# Altium schematic symbol library 原理图.SchLib: 5 symbols
Pins are listed as number, name and electrical type; pins without a type are passive.

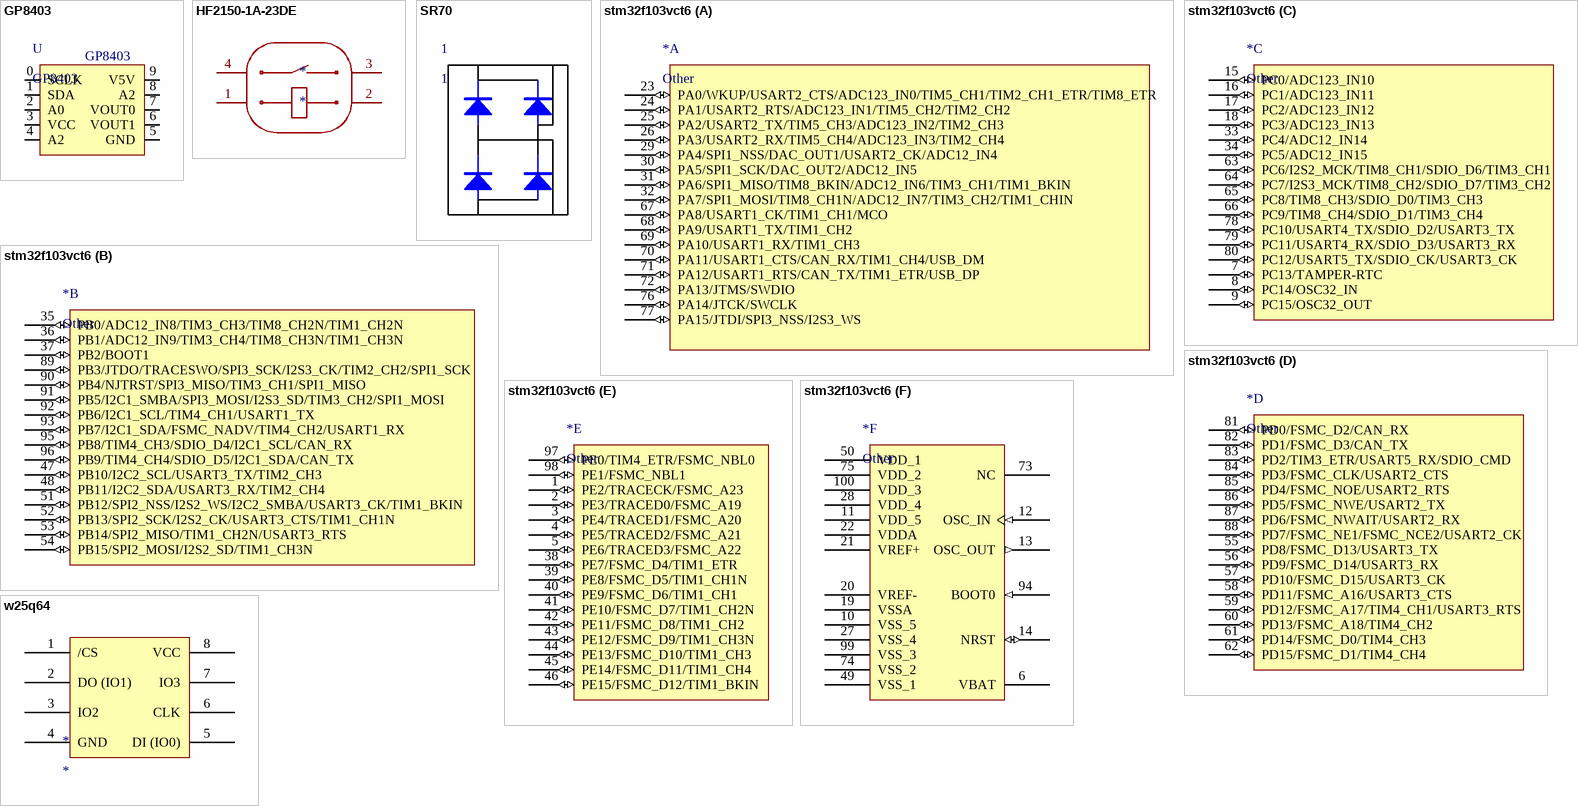
[diagram p0: symbols GP8403 to w25q64]

## GP8403
designator U
pins: 0 SCLK, 1 SDA, 2 A0, 3 VCC, 4 A2, 5 GND, 6 VOUT1, 7 VOUT0, 8 A2, 9 V5V

## HF2150-1A-23DE
designator *
pins: 1, 2, 3, 4

## SR70
designator 1, comment 1

## stm32f103vct6
designator *, comment Other
footprint STM-LQFP100_N (Thin QFP, 100-Leads, Body 14x14mm, Pitch 0.5mm, IPC Medium Density)
part A pins: 23 PA0/WKUP/USART2_CTS/ADC123_IN0/TIM5_CH1/TIM2_CH1_ETR/TIM8_ETR (io), 24 PA1/USART2_RTS/ADC123_IN1/TIM5_CH2/TIM2_CH2 (io), 25 PA2/USART2_TX/TIM5_CH3/ADC123_IN2/TIM2_CH3 (io), 26 PA3/USART2_RX/TIM5_CH4/ADC123_IN3/TIM2_CH4 (io), 29 PA4/SPI1_NSS/DAC_OUT1/USART2_CK/ADC12_IN4 (io), 30 PA5/SPI1_SCK/DAC_OUT2/ADC12_IN5 (io), 31 PA6/SPI1_MISO/TIM8_BKIN/ADC12_IN6/TIM3_CH1/TIM1_BKIN (io), 32 PA7/SPI1_MOSI/TIM8_CH1N/ADC12_IN7/TIM3_CH2/TIM1_CHIN (io), 67 PA8/USART1_CK/TIM1_CH1/MCO (io), 68 PA9/USART1_TX/TIM1_CH2 (io), 69 PA10/USART1_RX/TIM1_CH3 (io), 70 PA11/USART1_CTS/CAN_RX/TIM1_CH4/USB_DM (io), 71 PA12/USART1_RTS/CAN_TX/TIM1_ETR/USB_DP (io), 72 PA13/JTMS/SWDIO (io), 76 PA14/JTCK/SWCLK (io), 77 PA15/JTDI/SPI3_NSS/I2S3_WS (io)
part B pins: 35 PB0/ADC12_IN8/TIM3_CH3/TIM8_CH2N/TIM1_CH2N (io), 36 PB1/ADC12_IN9/TIM3_CH4/TIM8_CH3N/TIM1_CH3N (io), 37 PB2/BOOT1 (io), 47 PB10/I2C2_SCL/USART3_TX/TIM2_CH3 (io), 48 PB11/I2C2_SDA/USART3_RX/TIM2_CH4 (io), 51 PB12/SPI2_NSS/I2S2_WS/I2C2_SMBA/USART3_CK/TIM1_BKIN (io), 52 PB13/SPI2_SCK/I2S2_CK/USART3_CTS/TIM1_CH1N (io), 53 PB14/SPI2_MISO/TIM1_CH2N/USART3_RTS (io), 54 PB15/SPI2_MOSI/I2S2_SD/TIM1_CH3N (io), 89 PB3/JTDO/TRACESWO/SPI3_SCK/I2S3_CK/TIM2_CH2/SPI1_SCK (io), 90 PB4/NJTRST/SPI3_MISO/TIM3_CH1/SPI1_MISO (io), 91 PB5/I2C1_SMBA/SPI3_MOSI/I2S3_SD/TIM3_CH2/SPI1_MOSI (io), 92 PB6/I2C1_SCL/TIM4_CH1/USART1_TX (io), 93 PB7/I2C1_SDA/FSMC_NADV/TIM4_CH2/USART1_RX (io), 95 PB8/TIM4_CH3/SDIO_D4/I2C1_SCL/CAN_RX (io), 96 PB9/TIM4_CH4/SDIO_D5/I2C1_SDA/CAN_TX (io)
part C pins: 7 PC13/TAMPER-RTC (io), 8 PC14/OSC32_IN (io), 9 PC15/OSC32_OUT (io), 15 PC0/ADC123_IN10 (io), 16 PC1/ADC123_IN11 (io), 17 PC2/ADC123_IN12 (io), 18 PC3/ADC123_IN13 (io), 33 PC4/ADC12_IN14 (io), 34 PC5/ADC12_IN15 (io), 63 PC6/I2S2_MCK/TIM8_CH1/SDIO_D6/TIM3_CH1 (io), 64 PC7/I2S3_MCK/TIM8_CH2/SDIO_D7/TIM3_CH2 (io), 65 PC8/TIM8_CH3/SDIO_D0/TIM3_CH3 (io), 66 PC9/TIM8_CH4/SDIO_D1/TIM3_CH4 (io), 78 PC10/USART4_TX/SDIO_D2/USART3_TX (io), 79 PC11/USART4_RX/SDIO_D3/USART3_RX (io), 80 PC12/USART5_TX/SDIO_CK/USART3_CK (io)
part D pins: 55 PD8/FSMC_D13/USART3_TX (io), 56 PD9/FSMC_D14/USART3_RX (io), 57 PD10/FSMC_D15/USART3_CK (io), 58 PD11/FSMC_A16/USART3_CTS (io), 59 PD12/FSMC_A17/TIM4_CH1/USART3_RTS (io), 60 PD13/FSMC_A18/TIM4_CH2 (io), 61 PD14/FSMC_D0/TIM4_CH3 (io), 62 PD15/FSMC_D1/TIM4_CH4 (io), 81 PD0/FSMC_D2/CAN_RX (io), 82 PD1/FSMC_D3/CAN_TX (io), 83 PD2/TIM3_ETR/USART5_RX/SDIO_CMD (io), 84 PD3/FSMC_CLK/USART2_CTS (io), 85 PD4/FSMC_NOE/USART2_RTS (io), 86 PD5/FSMC_NWE/USART2_TX (io), 87 PD6/FSMC_NWAIT/USART2_RX (io), 88 PD7/FSMC_NE1/FSMC_NCE2/USART2_CK (io)
part E pins: 1 PE2/TRACECK/FSMC_A23 (io), 2 PE3/TRACED0/FSMC_A19 (io), 3 PE4/TRACED1/FSMC_A20 (io), 4 PE5/TRACED2/FSMC_A21 (io), 5 PE6/TRACED3/FSMC_A22 (io), 38 PE7/FSMC_D4/TIM1_ETR (io), 39 PE8/FSMC_D5/TIM1_CH1N (io), 40 PE9/FSMC_D6/TIM1_CH1 (io), 41 PE10/FSMC_D7/TIM1_CH2N (io), 42 PE11/FSMC_D8/TIM1_CH2 (io), 43 PE12/FSMC_D9/TIM1_CH3N (io), 44 PE13/FSMC_D10/TIM1_CH3 (io), 45 PE14/FSMC_D11/TIM1_CH4 (io), 46 PE15/FSMC_D12/TIM1_BKIN (io), 97 PE0/TIM4_ETR/FSMC_NBL0 (io), 98 PE1/FSMC_NBL1 (io)
part F pins: 6 VBAT (power), 10 VSS_5 (power), 11 VDD_5 (power), 12 OSC_IN (in), 13 OSC_OUT (out), 14 NRST (io), 19 VSSA (power), 20 VREF- (power), 21 VREF+ (power), 22 VDDA (power), 27 VSS_4 (power), 28 VDD_4 (power), 49 VSS_1 (power), 50 VDD_1 (power), 73 NC, 74 VSS_2 (power), 75 VDD_2 (power), 94 BOOT0 (in), 99 VSS_3 (power), 100 VDD_3 (power)

## w25q64
designator *
pins: 1 /CS, 2 DO (IO1), 3 IO2, 4 GND, 5 DI (IO0), 6 CLK, 7 IO3, 8 VCC